# Altium footprint library XTALSC320X500X120-2N.PcbLib: 1 footprints
Each footprint in its own frame and in the unit in brackets; x right, y up, seen from the top. Pads: shape width x height; smd on the part's side, far side on the other; paste and mask are expansions set on the pad; w line width, h text height; cw(c..) or ccw(c..) is an arc to the next point about the centre after c.
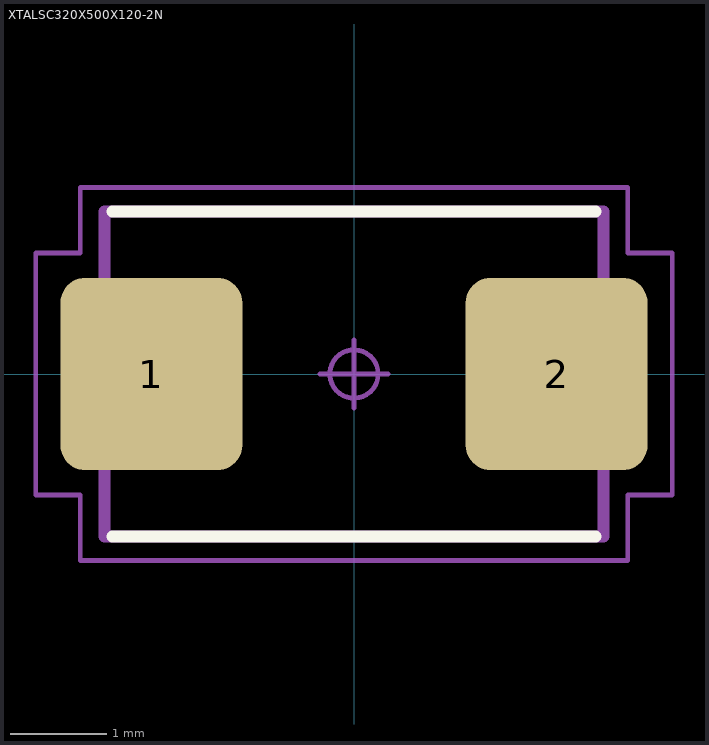
[diagram p0: the footprint, top view; thin cyan lines are the x and y axes]

## XTALSC320X500X120-2N [mm] "Crystal, Side Lead; 2 pin, 3.20 mm L X 5.00 mm W X 1.20 mm H body"
height 1.2
pads (2):
  rrect27% 1.88x1.99 smd: 1(-2.095,0) 2(2.095,0)
Top Overlay:
  lines w0.12: -2.5,-1.68 2.5,-1.68 ; -2.5,1.68 2.5,1.68
Mechanical 11:
  lines w0.12: -2.58,-1.68 2.58,-1.68 2.58,1.68 -2.58,1.68 -2.58,-1.68
Mechanical 15:
  circle w0.05: c0,0 r0.25
  lines w0.05: -0.35,0 0.35,0 ; 0,-0.35 0,0.35 ; -3.29,-1.25 -2.83,-1.25 -2.83,-1.93 2.83,-1.93 2.83,-1.25 3.29,-1.25 3.29,1.25 2.83,1.25 2.83,1.93 -2.83,1.93 -2.83,1.25 -3.29,1.25 -3.29,-1.25
3D body: height 1.35, standoff 0, extent -2.578,-1.676 2.578,1.676